# EAGLE library part FSA642 (library EDS_Eagle_Library)
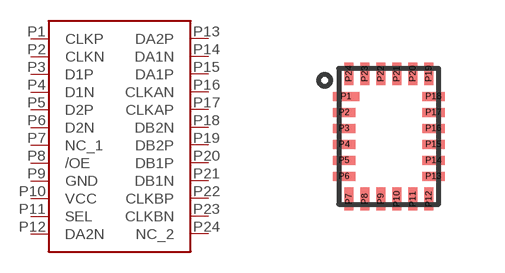
[diagram p2: symbol with the pads of UMLP24; footprint UMLP24]

Designator prefix -

## FSA642  [UMLP24]
P1  CLKP
P2  CLKN
P3  D1P
P4  D1N
P5  D2P
P6  D2N
P7  NC_1
P8  /OE
P9  GND
P10  VCC
P11  SEL
P12  DA2N
P13  DA2P
P14  DA1N
P15  DA1P
P16  CLKAN
P17  CLKAP
P18  DB2N
P19  DB2P
P20  DB1P
P21  DB1N
P22  CLKBP
P23  CLKBN
P24  NC_2

## Footprint UMLP24 (pad centres in mm)
smd 0.663 x 0.225: P1 -1.069,1
smd 0.563 x 0.225: P2 -1.119,0.6; P3 -1.119,0.2; P4 -1.119,-0.2; P5 -1.119,-0.6; P6 -1.119,-1; P13 1.119,-1; P14 1.119,-0.6; P15 1.119,-0.2; P16 1.119,0.2; P17 1.119,0.6; P18 1.119,1
smd 0.225 x 0.563: P7 -1,-1.569; P8 -0.6,-1.569; P9 -0.2,-1.569; P10 0.2,-1.569; P11 0.6,-1.569; P12 1,-1.569; P19 1,1.569; P20 0.6,1.569; P21 0.2,1.569; P22 -0.2,1.569; P23 -0.6,1.569; P24 -1,1.569